# Altium footprint library GRM155R71H103KA88D.PcbLib: 3 footprints
Each footprint in its own frame and in the unit in brackets; x right, y up, seen from the top. Pads: shape width x height; smd on the part's side, far side on the other; paste and mask are expansions set on the pad; w line width, h text height; cw(c..) or ccw(c..) is an arc to the next point about the centre after c.
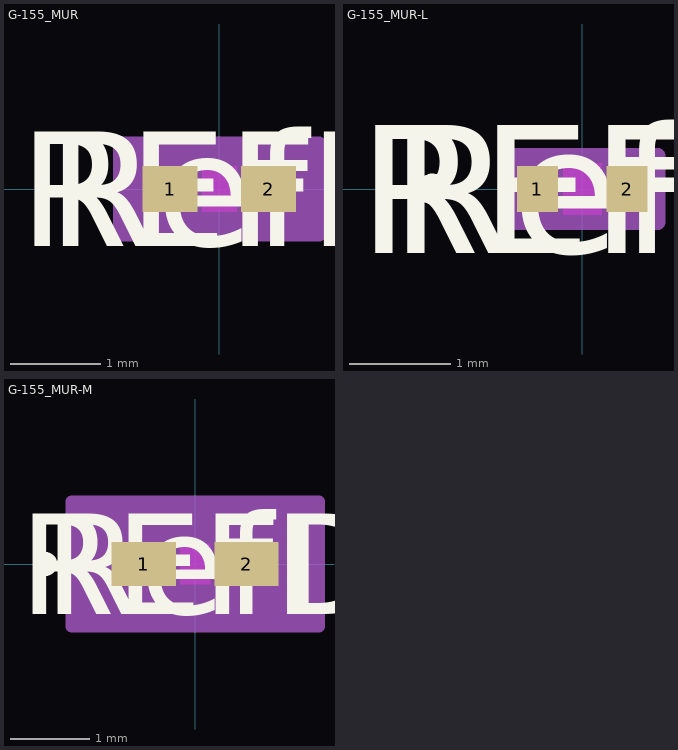
[diagram p0: the footprints below, top view; thin cyan lines are the x and y axes]

## G-155_MUR [mil]
pads (2):
  rect 24x20 smd paste+0 mask+0: 1(-21.5,0) 2(21.5,0)
Top Layer keep-out:
  region: -7.5,-8 -7.5,8 7.5,8 7.5,-8
Top Overlay:
  text "RefDes" at -75,-25 h50
  text "REFDES" at -87.5,-25 h50
Keep-Out Layer:
  region: -7.5,-10 -7.5,10 7.5,10 7.5,-10
Mechanical 13:
  circle w0: c-16.5,0 r0
  lines w1: -19.5,-10 -19.5,10 ; -19.5,-10 -9.5,-10 -9.5,10 -19.5,10 ; -19.5,-10 19.5,-10 ; -19.5,-10 -19.5,10 ; -19.5,10 19.5,10 ; 19.5,-10 9.5,-10 9.5,10 19.5,10 ; 19.5,-10 19.5,10 ; 19.5,-10 19.5,10
  text "RefDes2" at -87.5,-25 h50
Mechanical 15:
  region: 43.5,-20 -43.5,-20 -43.5,20 43.5,20
  lines w6: -43.5,-20 -43.5,20 43.5,20 43.5,-20 -43.5,-20
3D body "G-155_MUR.step": height 22.01, standoff 0, extent -19.49,-10 19.49,10

## G-155_MUR-L [mil]
pads (2):
  rect 16x18 smd paste+0 mask+0: 1(-17.5,0) 2(17.5,0)
Top Layer keep-out:
  region: -7.5,-8 -7.5,8 7.5,8 7.5,-8
Top Overlay:
  circle w6: c-58.5,0 r3
  text "RefDes" at -75,-25 h50
  text "REFDES" at -87.5,-25 h50
Keep-Out Layer:
  region: -7.5,-10 -7.5,10 7.5,10 7.5,-10
Mechanical 13:
  circle w0: c-12.5,0 r3
  lines w1: -19.5,-10 -19.5,10 ; -19.5,-10 -9.5,-10 -9.5,10 -19.5,10 ; -19.5,-10 19.5,-10 ; -19.5,-10 -19.5,10 ; -19.5,10 19.5,10 ; 19.5,-10 9.5,-10 9.5,10 19.5,10 ; 19.5,-10 19.5,10 ; 19.5,-10 19.5,10
  text "RefDes2" at -87.5,-25 h50
Mechanical 15:
  region: 29.5,-13 -29.5,-13 -29.5,13 29.5,13
  lines w6: -29.5,-13 -29.5,13 29.5,13 29.5,-13 -29.5,-13
3D body "G-155_MUR.step": height 22.01, standoff 0, extent -19.49,-10 19.49,10

## G-155_MUR-M [mil]
pads (2):
  rect 32x22 smd paste+0 mask+0: 1(-25.5,0) 2(25.5,0)
Top Layer keep-out:
  region: -7.5,-8 -7.5,8 7.5,8 7.5,-8
Top Overlay:
  circle w6: c-74.5,0 r3
  text "RefDes" at -75,-25 h50
  text "REFDES" at -87.5,-25 h50
Keep-Out Layer:
  region: -7.5,-10 -7.5,10 7.5,10 7.5,-10
Mechanical 13:
  circle w0: c-20.5,0 r3
  lines w1: -19.5,-10 -19.5,10 ; -19.5,-10 -9.5,-10 -9.5,10 -19.5,10 ; -19.5,-10 19.5,-10 ; -19.5,-10 -19.5,10 ; -19.5,10 19.5,10 ; 19.5,-10 9.5,-10 9.5,10 19.5,10 ; 19.5,-10 19.5,10 ; 19.5,-10 19.5,10
  text "RefDes2" at -87.5,-25 h50
Mechanical 15:
  region: 61.5,-31 -61.5,-31 -61.5,31 61.5,31
  lines w6: -61.5,-31 -61.5,31 61.5,31 61.5,-31 -61.5,-31
3D body "G-155_MUR.step": height 22.01, standoff 0, extent -19.49,-10 19.49,10